# Altium schematic symbol library MMBZ27VCLT1G.SchLib: 1 symbol
Pins are listed as number, name and electrical type; pins without a type are passive.

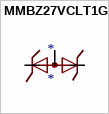
[diagram p0: symbol MMBZ27VCLT1G]

## MMBZ27VCLT1G
designator *
footprint SOT23
pins: 1 K1, 2 K2, 3 A